# Altium integrated library RF_VIDEO_MODULE.IntLib: 1 symbol
Pins are listed as number, name and electrical type; pins without a type are passive.

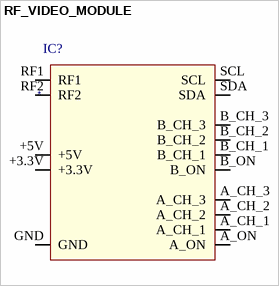
[diagram p0: symbol RF_VIDEO_MODULE]

## RF_VIDEO_MODULE
designator IC?
PDF: *; PRICE: *; BUY_LINK: *; ID: *
footprint RF_VIDEO_MODULE
pins: +3.3V, +5V, A_CH_1, A_CH_2, A_CH_3, A_ON, B_CH_1, B_CH_2, B_CH_3, B_ON, GND, RF1, RF2, SCL, SDA